# EAGLE library part ICS-43434 (library ICS-43434)
Multi-Mode Microphone with I2S Digital Output
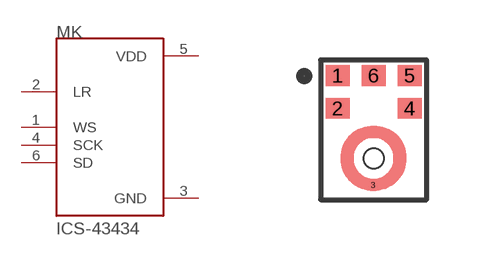
[diagram p0: symbol with the pads of MIC_ICS-43434; footprint MIC_ICS-43434]

Designator prefix MK

## ICS-43434 (Description: Multi-Mode Microphone with I2S Digital Output; Digi-Key_Part_Number: 1428-1066-1-ND; Digi-Key_Purchase_URL: https://www.digikey.com/product-detail/en/tdk-invensense/ICS-43434/1428-1066-1-ND/6140312?utm_source=snapeda&utm_medium=aggregator&utm_campaign=symbol; MF: TDK InvenSense; MP: ICS-43434; Package: LGA-6 TDK-InvenSense)  [MIC_ICS-43434]
1  WS  in
2  LR  in
3  GND  pwr
4  SCK  in
5  VDD  pwr
6  SD  out

## Footprint MIC_ICS-43434 (pad centres in mm)
smd 0.6 x 0.522: 1 -0.9,1.361; 2 -0.9,0.539; 4 0.9,0.539; 5 0.9,1.361; 6 0,1.361
smd 0.1 x 0.1: 3 -0.015,-1.383
hole 0.5 at 0,-0.713